# Altium footprint library CME0303S3C.PcbLib: 1 footprints
Each footprint in its own frame and in the unit in brackets; x right, y up, seen from the top. Pads: shape width x height; smd on the part's side, far side on the other; paste and mask are expansions set on the pad; w line width, h text height; cw(c..) or ccw(c..) is an arc to the next point about the centre after c.
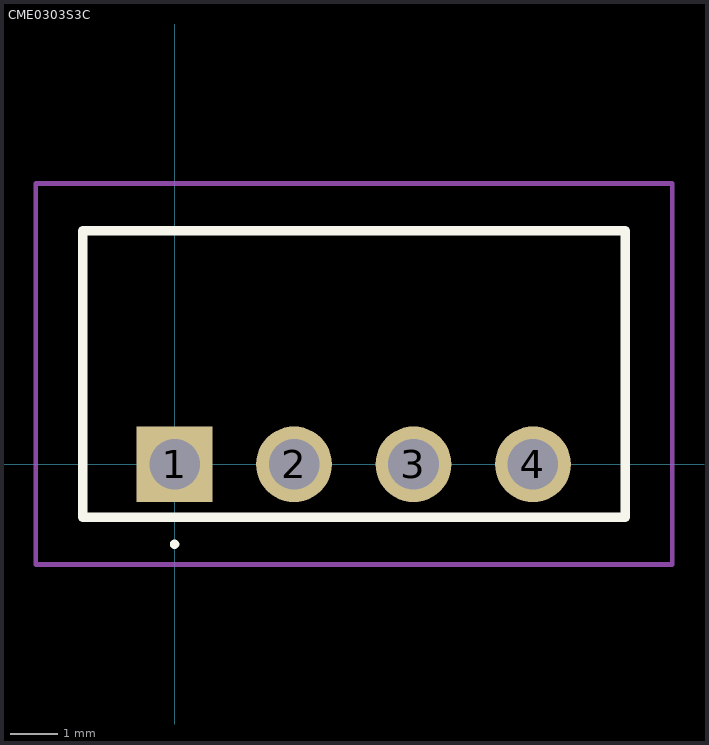
[diagram p0: the footprint, top view; thin cyan lines are the x and y axes]

## CME0303S3C [mm]
pads (4):
  rect 1.612x1.612 hole 1.075: 1(0,0)
  round 1.612 hole 1.075: 2(2.54,0) 3(5.08,0) 4(7.62,0)
Top Overlay:
  lines w0.1: 0,-1.75 0,-1.75 ; 0,-1.75 ccw(c0,-1.7) 0,-1.65 ; 0,-1.75 cw(c0,-1.7) 0,-1.65 ; 0,-1.65 0,-1.65
  lines w0.2: -1.95,-1.13 9.58,-1.13 9.58,4.97 -1.95,4.97 -1.95,-1.13
Mechanical 15:
  lines w0.1: -1.95,-1.13 9.58,-1.13 9.58,4.97 -1.95,4.97 -1.95,-1.13
Mechanical 20:
  lines w0.1: -2.95,-2.13 10.58,-2.13 10.58,5.97 -2.95,5.97 -2.95,-2.13